# Altium footprint library TQMP2020.PcbLib: 1 footprints
Each footprint in its own frame and in the unit in brackets; x right, y up, seen from the top. Pads: shape width x height; smd on the part's side, far side on the other; paste and mask are expansions set on the pad; w line width, h text height; cw(c..) or ccw(c..) is an arc to the next point about the centre after c.
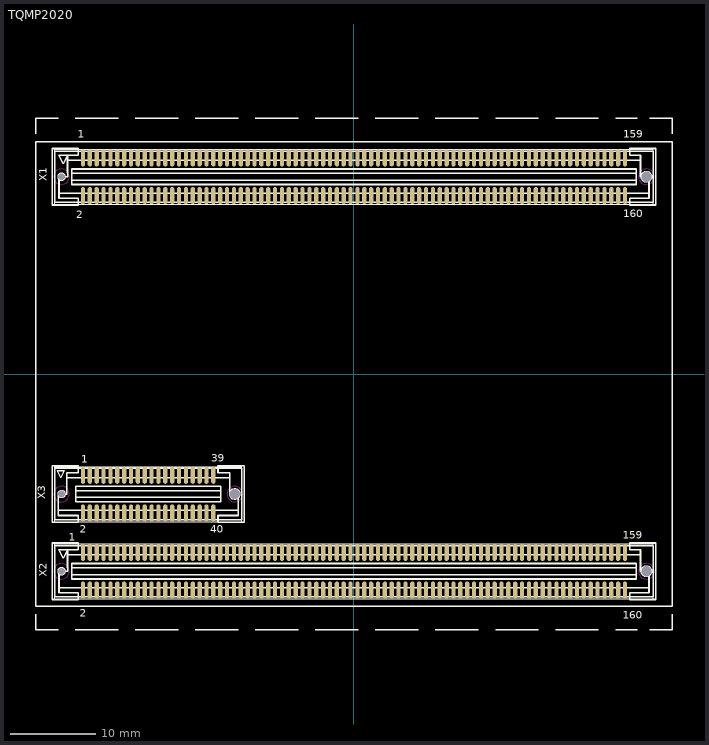
[diagram p0: the footprint, top view; thin cyan lines are the x and y axes]

## TQMP2020 [mm] "P2020 embedded module"
height 10
pads (366):
  oval 0.5x2 smd: 1-1(-31.6,25.2) 1-2(-31.6,20.8) 1-3(-30.8,25.2) 1-4(-30.8,20.8) 1-5(-30,25.2) 1-6(-30,20.8) 1-7(-29.2,25.2) 1-8(-29.2,20.8) 1-9(-28.4,25.2) 1-10(-28.4,20.8) 1-11(-27.6,25.2) 1-12(-27.6,20.8) 1-13(-26.8,25.2) 1-14(-26.8,20.8) 1-15(-26,25.2) 1-16(-26,20.8) 1-17(-25.2,25.2) 1-18(-25.2,20.8) 1-19(-24.4,25.2) 1-20(-24.4,20.8) 1-21(-23.6,25.2) 1-22(-23.6,20.8) 1-23(-22.8,25.2) 1-24(-22.8,20.8) 1-25(-22,25.2) 1-26(-22,20.8) 1-27(-21.2,25.2) 1-28(-21.2,20.8) 1-29(-20.4,25.2) 1-30(-20.4,20.8) 1-31(-19.6,25.2) 1-32(-19.6,20.8) 1-33(-18.8,25.2) 1-34(-18.8,20.8) 1-35(-18,25.2) 1-36(-18,20.8) 1-37(-17.2,25.2) 1-38(-17.2,20.8) 1-39(-16.4,25.2) 1-40(-16.4,20.8) 1-41(-15.6,25.2) 1-42(-15.6,20.8) 1-43(-14.8,25.2) 1-44(-14.8,20.8) 1-45(-14,25.2) 1-46(-14,20.8) 1-47(-13.2,25.2) 1-48(-13.2,20.8) 1-49(-12.4,25.2) 1-50(-12.4,20.8) 1-51(-11.6,25.2) 1-52(-11.6,20.8) 1-53(-10.8,25.2) 1-54(-10.8,20.8) 1-55(-10,25.2) 1-56(-10,20.8) 1-57(-9.2,25.2) 1-58(-9.2,20.8) 1-59(-8.4,25.2) 1-60(-8.4,20.8) 1-61(-7.6,25.2) 1-62(-7.6,20.8) 1-63(-6.8,25.2) 1-64(-6.8,20.8) 1-65(-6,25.2) 1-66(-6,20.8) 1-67(-5.2,25.2) 1-68(-5.2,20.8) 1-69(-4.4,25.2) 1-70(-4.4,20.8) 1-71(-3.6,25.2) 1-72(-3.6,20.8) 1-73(-2.8,25.2) 1-74(-2.8,20.8) 1-75(-2,25.2) 1-76(-2,20.8) 1-77(-1.2,25.2) 1-78(-1.2,20.8) 1-79(-0.4,25.2) 1-80(-0.4,20.8) 1-81(0.4,25.2) 1-82(0.4,20.8) 1-83(1.2,25.2) 1-84(1.2,20.8) 1-85(2,25.2) 1-86(2,20.8) 1-87(2.8,25.2) 1-88(2.8,20.8) 1-89(3.6,25.2) 1-90(3.6,20.8) 1-91(4.4,25.2) 1-92(4.4,20.8) 1-93(5.2,25.2) 1-94(5.2,20.8) 1-95(6,25.2) 1-96(6,20.8) 1-97(6.8,25.2) 1-98(6.8,20.8) 1-99(7.6,25.2) 1-100(7.6,20.8) 1-101(8.4,25.2) 1-102(8.4,20.8) 1-103(9.2,25.2) 1-104(9.2,20.8) 1-105(10,25.2) 1-106(10,20.8) 1-107(10.8,25.2) 1-108(10.8,20.8) 1-109(11.6,25.2) 1-110(11.6,20.8) 1-111(12.4,25.2) 1-112(12.4,20.8) 1-113(13.2,25.2) 1-114(13.2,20.8) 1-115(14,25.2) 1-116(14,20.8) 1-117(14.8,25.2) 1-118(14.8,20.8) 1-119(15.6,25.2) 1-120(15.6,20.8) 1-121(16.4,25.2) 1-122(16.4,20.8) 1-123(17.2,25.2) 1-124(17.2,20.8) 1-125(18,25.2) 1-126(18,20.8) 1-127(18.8,25.2) 1-128(18.8,20.8) 1-129(19.6,25.2) 1-130(19.6,20.8) 1-131(20.4,25.2) 1-132(20.4,20.8) 1-133(21.2,25.2) 1-134(21.2,20.8) 1-135(22,25.2) 1-136(22,20.8) 1-137(22.8,25.2) 1-138(22.8,20.8) 1-139(23.6,25.2) 1-140(23.6,20.8) 1-141(24.4,25.2) 1-142(24.4,20.8) 1-143(25.2,25.2) 1-144(25.2,20.8) 1-145(26,25.2) 1-146(26,20.8) 1-147(26.8,25.2) 1-148(26.8,20.8) 1-149(27.6,25.2) 1-150(27.6,20.8) 1-151(28.4,25.2) 1-152(28.4,20.8) 1-153(29.2,25.2) 1-154(29.2,20.8) 1-155(30,25.2) 1-156(30,20.8) 1-157(30.8,25.2) 1-158(30.8,20.8) 1-159(31.6,25.2) 1-160(31.6,20.8) 2-1(-31.6,-20.8) 2-2(-31.6,-25.2) 2-3(-30.8,-20.8) 2-4(-30.8,-25.2) 2-5(-30,-20.8) 2-6(-30,-25.2) 2-7(-29.2,-20.8) 2-8(-29.2,-25.2) 2-9(-28.4,-20.8) 2-10(-28.4,-25.2) 2-11(-27.6,-20.8) 2-12(-27.6,-25.2) 2-13(-26.8,-20.8) 2-14(-26.8,-25.2) 2-15(-26,-20.8) 2-16(-26,-25.2) 2-17(-25.2,-20.8) 2-18(-25.2,-25.2) 2-19(-24.4,-20.8) 2-20(-24.4,-25.2) 2-21(-23.6,-20.8) 2-22(-23.6,-25.2) 2-23(-22.8,-20.8) 2-24(-22.8,-25.2) 2-25(-22,-20.8) 2-26(-22,-25.2) 2-27(-21.2,-20.8) 2-28(-21.2,-25.2) 2-29(-20.4,-20.8) 2-30(-20.4,-25.2) 2-31(-19.6,-20.8) 2-32(-19.6,-25.2) 2-33(-18.8,-20.8) 2-34(-18.8,-25.2) 2-35(-18,-20.8) 2-36(-18,-25.2) 2-37(-17.2,-20.8) 2-38(-17.2,-25.2) 2-39(-16.4,-20.8) 2-40(-16.4,-25.2) 2-41(-15.6,-20.8) 2-42(-15.6,-25.2) 2-43(-14.8,-20.8) 2-44(-14.8,-25.2) 2-45(-14,-20.8) 2-46(-14,-25.2) 2-47(-13.2,-20.8) 2-48(-13.2,-25.2) 2-49(-12.4,-20.8) 2-50(-12.4,-25.2) 2-51(-11.6,-20.8) 2-52(-11.6,-25.2) 2-53(-10.8,-20.8) 2-54(-10.8,-25.2) 2-55(-10,-20.8) 2-56(-10,-25.2) 2-57(-9.2,-20.8) 2-58(-9.2,-25.2) 2-59(-8.4,-20.8) 2-60(-8.4,-25.2) 2-61(-7.6,-20.8) 2-62(-7.6,-25.2) 2-63(-6.8,-20.8) 2-64(-6.8,-25.2) 2-65(-6,-20.8) 2-66(-6,-25.2) 2-67(-5.2,-20.8) 2-68(-5.2,-25.2) 2-69(-4.4,-20.8) 2-70(-4.4,-25.2) 2-71(-3.6,-20.8) 2-72(-3.6,-25.2) 2-73(-2.8,-20.8) 2-74(-2.8,-25.2) 2-75(-2,-20.8) 2-76(-2,-25.2) 2-77(-1.2,-20.8) 2-78(-1.2,-25.2) 2-79(-0.4,-20.8) 2-80(-0.4,-25.2) 2-81(0.4,-20.8) 2-82(0.4,-25.2) 2-83(1.2,-20.8) 2-84(1.2,-25.2) 2-85(2,-20.8) 2-86(2,-25.2) 2-87(2.8,-20.8) 2-88(2.8,-25.2) 2-89(3.6,-20.8) 2-90(3.6,-25.2) 2-91(4.4,-20.8) 2-92(4.4,-25.2) 2-93(5.2,-20.8) 2-94(5.2,-25.2) 2-95(6,-20.8) 2-96(6,-25.2) 2-97(6.8,-20.8) 2-98(6.8,-25.2) 2-99(7.6,-20.8) 2-100(7.6,-25.2) 2-101(8.4,-20.8) 2-102(8.4,-25.2) 2-103(9.2,-20.8) 2-104(9.2,-25.2) 2-105(10,-20.8) 2-106(10,-25.2) 2-107(10.8,-20.8) 2-108(10.8,-25.2) 2-109(11.6,-20.8) 2-110(11.6,-25.2) 2-111(12.4,-20.8) 2-112(12.4,-25.2) 2-113(13.2,-20.8) 2-114(13.2,-25.2) 2-115(14,-20.8) 2-116(14,-25.2) 2-117(14.8,-20.8) 2-118(14.8,-25.2) 2-119(15.6,-20.8) 2-120(15.6,-25.2) 2-121(16.4,-20.8) 2-122(16.4,-25.2) 2-123(17.2,-20.8) 2-124(17.2,-25.2) 2-125(18,-20.8) 2-126(18,-25.2) 2-127(18.8,-20.8) 2-128(18.8,-25.2) 2-129(19.6,-20.8) 2-130(19.6,-25.2) 2-131(20.4,-20.8) 2-132(20.4,-25.2) 2-133(21.2,-20.8) 2-134(21.2,-25.2) 2-135(22,-20.8) 2-136(22,-25.2) 2-137(22.8,-20.8) 2-138(22.8,-25.2) 2-139(23.6,-20.8) 2-140(23.6,-25.2) 2-141(24.4,-20.8) 2-142(24.4,-25.2) 2-143(25.2,-20.8) 2-144(25.2,-25.2) 2-145(26,-20.8) 2-146(26,-25.2) 2-147(26.8,-20.8) 2-148(26.8,-25.2) 2-149(27.6,-20.8) 2-150(27.6,-25.2) 2-151(28.4,-20.8) 2-152(28.4,-25.2) 2-153(29.2,-20.8) 2-154(29.2,-25.2) 2-155(30,-20.8) 2-156(30,-25.2) 2-157(30.8,-20.8) 2-158(30.8,-25.2) 2-159(31.6,-20.8) 2-160(31.6,-25.2) 3-1(-31.6,-11.8) 3-2(-31.6,-16.2) 3-3(-30.8,-11.8) 3-4(-30.8,-16.2) 3-5(-30,-11.8) 3-6(-30,-16.2) 3-7(-29.2,-11.8) 3-8(-29.2,-16.2) 3-9(-28.4,-11.8) 3-10(-28.4,-16.2) 3-11(-27.6,-11.8) 3-12(-27.6,-16.2) 3-13(-26.8,-11.8) 3-14(-26.8,-16.2) 3-15(-26,-11.8) 3-16(-26,-16.2) 3-17(-25.2,-11.8) 3-18(-25.2,-16.2) 3-19(-24.4,-11.8) 3-20(-24.4,-16.2) 3-21(-23.6,-11.8) 3-22(-23.6,-16.2) 3-23(-22.8,-11.8) 3-24(-22.8,-16.2) 3-25(-22,-11.8) 3-26(-22,-16.2) 3-27(-21.2,-11.8) 3-28(-21.2,-16.2) 3-29(-20.4,-11.8) 3-30(-20.4,-16.2) 3-31(-19.6,-11.8) 3-32(-19.6,-16.2) 3-33(-18.8,-11.8) 3-34(-18.8,-16.2) 3-35(-18,-11.8) 3-36(-18,-16.2) 3-37(-17.2,-11.8) 3-38(-17.2,-16.2) 3-39(-16.4,-11.8) 3-40(-16.4,-16.2)
  round 0 hole 0.8 unplated: 241(-34.1,23) 243(-34.1,-23) 326(-34.1,-14)
  round 0 hole 1.2 unplated: 242(34.1,23) 244(34.1,-23) 325(-13.9,-14)
Top Overlay:
  drawing of 174 lines, arcs and shapes, not listed
  text "40" at -16.776,-18.525 h0.9
  text "39" at -16.654,-10.225 h0.9
  text "2" at -31.975,-18.525 h0.9
  text "1" at -31.782,-10.325 h0.9
  text "1" at -33.282,-19.425 h0.9
  text "2" at -31.975,-28.325 h0.9
  text "160" at 31.318,-28.525 h0.9
  text "159" at 31.316,-19.225 h0.9
  text "159" at 31.416,27.575 h0.9
  text "2" at -32.375,18.175 h0.9
  text "160" at 31.418,18.275 h0.9
  text "1" at -32.182,27.575 h0.9
  text "X2" at -35.56,-23.622 h1.5
  text "X1" at -35.56,22.479 h1.5
  text "X3" at -35.687,-14.605 h1.5
Keep-Out Layer:
  circle w0.1: c34.1,23 r0.908
  circle w0.1: c34.1,-23 r0.908
  circle w0.1: c-13.9,-14 r0.908
  circle w0.1: c-34.1,-23 r0.908
  circle w0.1: c-34.1,-14 r0.908
  circle w0.1: c-34.1,23 r0.908